# Altium footprint library FH12A-40S-0.5SH_55_.PcbLib: 1 footprints
Each footprint in its own frame and in the unit in brackets; x right, y up, seen from the top. Pads: shape width x height; smd on the part's side, far side on the other; paste and mask are expansions set on the pad; w line width, h text height; cw(c..) or ccw(c..) is an arc to the next point about the centre after c.
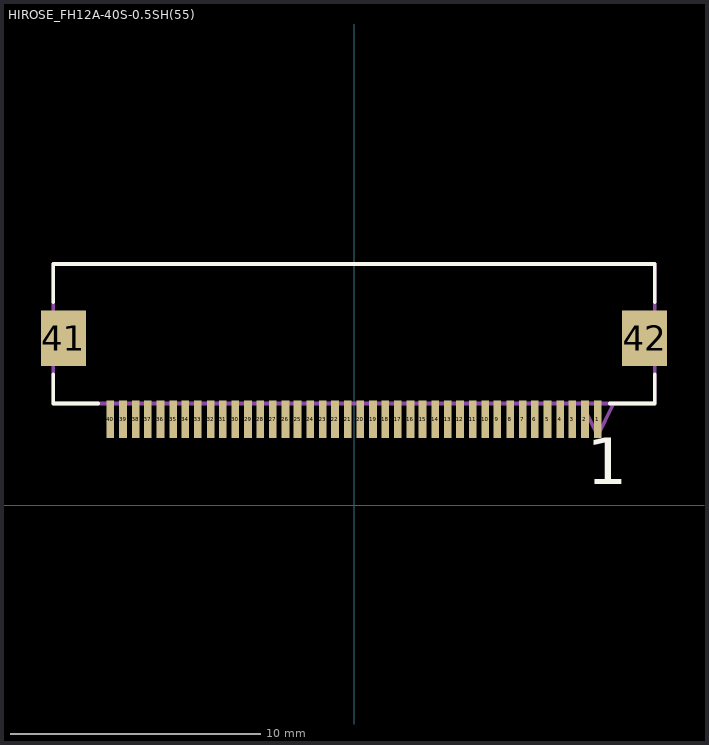
[diagram p0: the footprint, top view; thin cyan lines are the x and y axes]

## HIROSE_FH12A-40S-0.5SH(55) [mil] "FH12A-40S-0.5SH(55), LCD, LCD Connector,"
height 3.6
pads (42):
  rect 12x59 smd: 1(384,135) 2(364,135) 3(344,135) 4(325,135) 5(305,135) 6(285,135) 7(266,135) 8(246,135) 9(226,135) 10(207,135) 11(187,135) 12(167,135) 13(148,135) 14(128,135) 15(108,135) 16(89,135) 17(69,135) 18(49,135) 19(30,135) 20(10,135) 21(-10,135) 22(-30,135) 23(-49,135) 24(-69,135) 25(-89,135) 26(-108,135) 27(-128,135) 28(-148,135) 29(-167,135) 30(-187,135) 31(-207,135) 32(-226,135) 33(-246,135) 34(-266,135) 35(-285,135) 36(-305,135) 37(-325,135) 38(-344,135) 39(-364,135) 40(-384,135)
  rect 71x87 smd: 41(-458,263) 42(458,263)
Top Overlay:
  lines w6: -474,206 -474,160 -403,160 ; -474,320 -474,380 474,380 474,320 ; 403,160 474,160 474,206
  text "1" at 366.46,33.21 h73.82
Mechanical 1:
  lines w6: 359,160 384,110 409,160 ; -474,160 474,160 474,380 -474,380 -474,160
  text "1" at 365.64,31.23 h73.82